# EAGLE library part DISP_IN12A (library dp_devices)
IN-12A Nixie Display
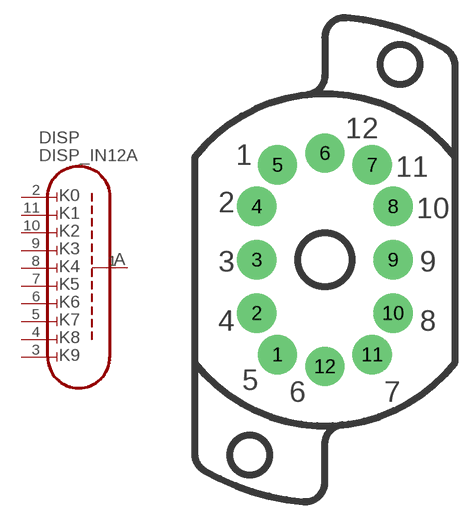
[diagram p114: symbol with the pads of DISP_IN-12_SOCKET; footprint DISP_IN-12_SOCKET]

Designator prefix DISP

## DISP_IN12A  [DISP_IN-12_SOCKET]
1  ANODE  in
2  K0  in
3  K9  in
4  K8  in
5  K7  in
6  K6  in
7  K5  in
8  K4  in
9  K3  in
10  K2  in
11  K1  in

## Footprint DISP_IN-12_SOCKET (pad centres in mm)
drill 2.3 round: 1 -4,-8; 2 -5.75,-4.5; 3 -5.75,0; 4 -5.75,4.5; 5 -4,8; 6 0,9; 7 4,8; 8 5.75,4.5; 9 5.75,0; 10 5.75,-4.5; 11 4,-8; 12 0,-9
hole 3.3 at 6.35,16.5
hole 3.3 at -6.35,-16.5